# EAGLE library part 615008160221 (library USB_c_conn)
WR-MJ Modular Jack THT Horizontal Shielded EMI 8P8C MATERIAL PROPERTIES Insulator Material PA9T Insulator Flammability Rating UL94 V-0 Insulator Color Black Contact Material Copper Alloy Contact Plating 6u' on contact plating Contact Type Wired GENERAL INFORMATION Operating Temperature -40 up to +85 °C ELECTRICAL PROPERTIES Working Voltage 150 V (AC) Contact Resistance 20 mΩ RISO 1000 MΩ PACKAGING PROPERTIES Packaging Tray <https://katalog.we-online.com/media/images/v2/o161617v209%20Family_WR-MJTH_615008160221.jpg> Details see: https://katalog.we-online.com/en/em/MJ_THT_HORIZONTAL_SHIELDED_8P8C_EMI Created by Ella Wu 2019-11-05 2019(C) Wurth Elektronik
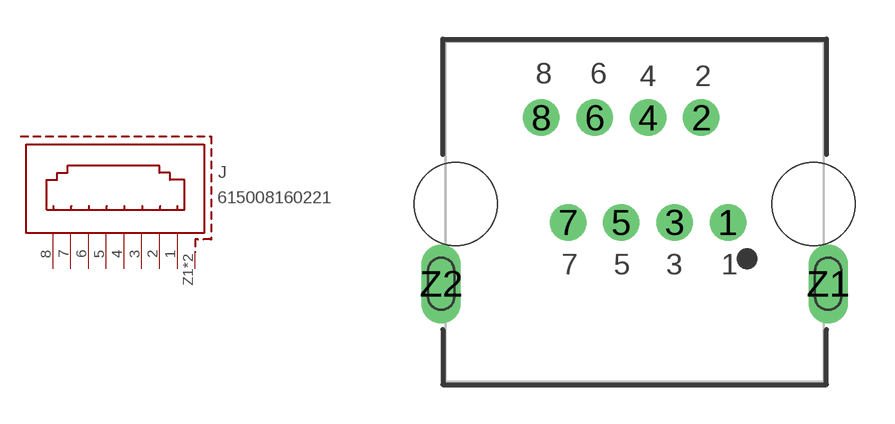
[diagram p198: symbol with the pads of 615008160221; footprint 615008160221]

Designator prefix J

## 615008160221  [615008160221]
1  1  pas
2  2  pas
3  3  pas
4  4  pas
5  5  pas
6  6  pas
7  7  pas
8  8  pas
Z1  SHIELD  pas
Z2  SHIELD  pas

## Footprint 615008160221 (pad centres in mm)
drill 0.89: 1 3.57,-0.7; 2 2.55,3.3; 3 1.53,-0.7; 4 0.51,3.3; 5 -0.51,-0.7; 6 -1.53,3.3; 7 -2.55,-0.7; 8 -3.57,3.3
drill 1 pad 1.27 long: Z1 7.4,-3.05; Z2 -7.4,-3.05
hole 3.18 at -6.85,0
hole 3.18 at 6.85,0